# Altium footprint library SnapEDApcb.PcbLib: 4 footprints
Each footprint in its own frame and in the unit in brackets; x right, y up, seen from the top. Pads: shape width x height; smd on the part's side, far side on the other; paste and mask are expansions set on the pad; w line width, h text height; cw(c..) or ccw(c..) is an arc to the next point about the centre after c.
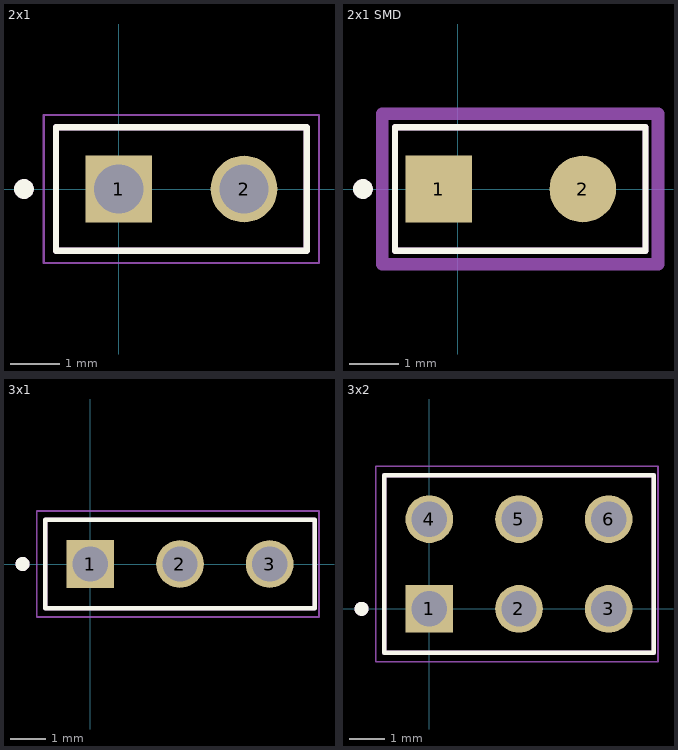
[diagram p0: the footprints below, top view; thin cyan lines are the x and y axes]

## 2х1 [mm]
pads (2):
  rect 1.35x1.35 hole 1: 1(0,0)
  round 1.35 hole 1: 2(2.54,0)
Top Overlay:
  circle w0.2: c-1.92,0 r0.1
  lines w0.127: -1.27,-1.25 -1.27,1.25 3.81,1.25 3.81,-1.25 -1.27,-1.25
Mechanical 13:
  circle w0.2: c-1.92,0 r0.1
  lines w0.127: -1.27,-1.25 -1.27,1.25 3.81,1.25 3.81,-1.25 ; -1.27,-1.25 3.81,-1.25 ; -1.27,-1.25 3.81,-1.25
Mechanical 15:
  lines w0.05: -1.52,-1.5 -1.52,1.5 4.06,1.5 4.06,-1.5 -1.52,-1.5
3D body "User Library-HEADER 1x1 Pitch 2_54x2_54.sldprt": height 8.38, standoff -2.92, extent 1.27,-1.27 3.81,1.27
3D body "User Library-HEADER 1x1 Pitch 2_54x2_54.sldprt": height 8.38, standoff -2.92, extent -1.27,-1.27 1.27,1.27

## 2х1 SMD [mm]
pads (2):
  rect 1.35x1.35 smd: 1(-0.381,0)
  round 1.35 smd: 2(2.54,0)
Top Overlay:
  circle w0.2: c-1.92,0 r0.1
  lines w0.127: -1.27,-1.25 -1.27,1.25 3.81,1.25 3.81,-1.25 -1.27,-1.25
Mechanical 1:
  lines w0.254: -1.524,-1.524 -1.524,1.524 4.064,1.524 4.064,-1.524 -1.524,-1.524
Mechanical 13:
  circle w0.2: c-1.92,0 r0.1
  lines w0.127: -1.27,-1.25 -1.27,1.25 3.81,1.25 3.81,-1.25 ; -1.27,-1.25 3.81,-1.25 ; -1.27,-1.25 3.81,-1.25
Mechanical 15:
  lines w0.05: -1.52,-1.5 -1.52,1.5 4.06,1.5 4.06,-1.5 -1.52,-1.5
3D body "c-2-1445096-2-e-3d.stp": height 8.76, standoff -0.57, extent -5.334,-3.556 7.916,2.854
3D body: height 0.25, standoff 0, extent -1.524,-1.524 4.064,1.524

## 3х1 [mm]
pads (3):
  rect 1.35x1.35 hole 1: 1(0,0)
  round 1.35 hole 1: 2(2.54,0) 3(5.08,0)
Top Overlay:
  circle w0.2: c-1.92,0 r0.1
  lines w0.127: -1.27,-1.25 -1.27,1.25 6.35,1.25 6.35,-1.25 -1.27,-1.25
Mechanical 13:
  circle w0.2: c-1.92,0 r0.1
  lines w0.127: 3.81,-1.25 -1.27,-1.25 ; -1.27,-1.25 -1.27,1.25 6.35,1.25 6.35,-1.25 -1.27,-1.25
Mechanical 15:
  lines w0.05: -1.52,-1.5 -1.52,1.5 6.477,1.5 6.477,-1.5 -1.52,-1.5
3D body "User Library-HEADER 1x1 Pitch 2_54x2_54.sldprt": height 8.38, standoff -2.92, extent 1.27,-1.27 3.81,1.27
3D body "User Library-HEADER 1x1 Pitch 2_54x2_54.sldprt": height 8.38, standoff -2.92, extent -1.27,-1.27 1.27,1.27
3D body "User Library-HEADER 1x1 Pitch 2_54x2_54.sldprt": height 8.38, standoff -2.92, extent 3.81,-1.27 6.35,1.27

## 3х2 [mm]
pads (6):
  rect 1.35x1.35 hole 1: 1(0,0)
  round 1.35 hole 1: 2(2.54,0) 3(5.08,0) 4(0,2.54) 5(2.54,2.54) 6(5.08,2.54)
Top Overlay:
  circle w0.2: c-1.92,0 r0.1
  lines w0.127: -1.27,1.25 -1.27,-1.25 6.35,-1.25 6.35,1.25 ; -1.27,1.29 -1.27,3.79 6.35,3.79 6.35,1.29
Mechanical 13:
  circle w0.2: c-1.92,0 r0.1
  lines w0.127: -1.27,1.25 -1.27,-1.25 ; -1.27,1.29 -1.27,3.79 6.35,3.79 6.35,1.29 ; 3.81,-1.25 -1.27,-1.25 ; 6.35,1.25 6.35,-1.25 -1.27,-1.25
Mechanical 15:
  lines w0.05: -1.52,1.04 -1.52,4.04 6.477,4.04 6.477,1.04 ; -1.52,1.5 -1.52,-1.5 6.477,-1.5 6.477,1.5
3D body "User Library-HEADER 1x1 Pitch 2_54x2_54.sldprt": height 8.38, standoff -2.92, extent 1.27,-1.27 3.81,1.27
3D body "User Library-HEADER 1x1 Pitch 2_54x2_54.sldprt": height 8.38, standoff -2.92, extent -1.27,-1.27 1.27,1.27
3D body "User Library-HEADER 1x1 Pitch 2_54x2_54.sldprt": height 8.38, standoff -2.92, extent 3.81,-1.27 6.35,1.27
3D body "User Library-HEADER 1x1 Pitch 2_54x2_54.sldprt": height 8.38, standoff -2.92, extent 1.27,1.27 3.81,3.81
3D body "User Library-HEADER 1x1 Pitch 2_54x2_54.sldprt": height 8.38, standoff -2.92, extent -1.27,1.27 1.27,3.81
3D body "User Library-HEADER 1x1 Pitch 2_54x2_54.sldprt": height 8.38, standoff -2.92, extent 3.81,1.27 6.35,3.81